# Altium integrated library ST Logic Flip-Flop.IntLib: 130 symbols (part 1 of 2)
Pins are listed as number, name and electrical type; pins without a type are passive.

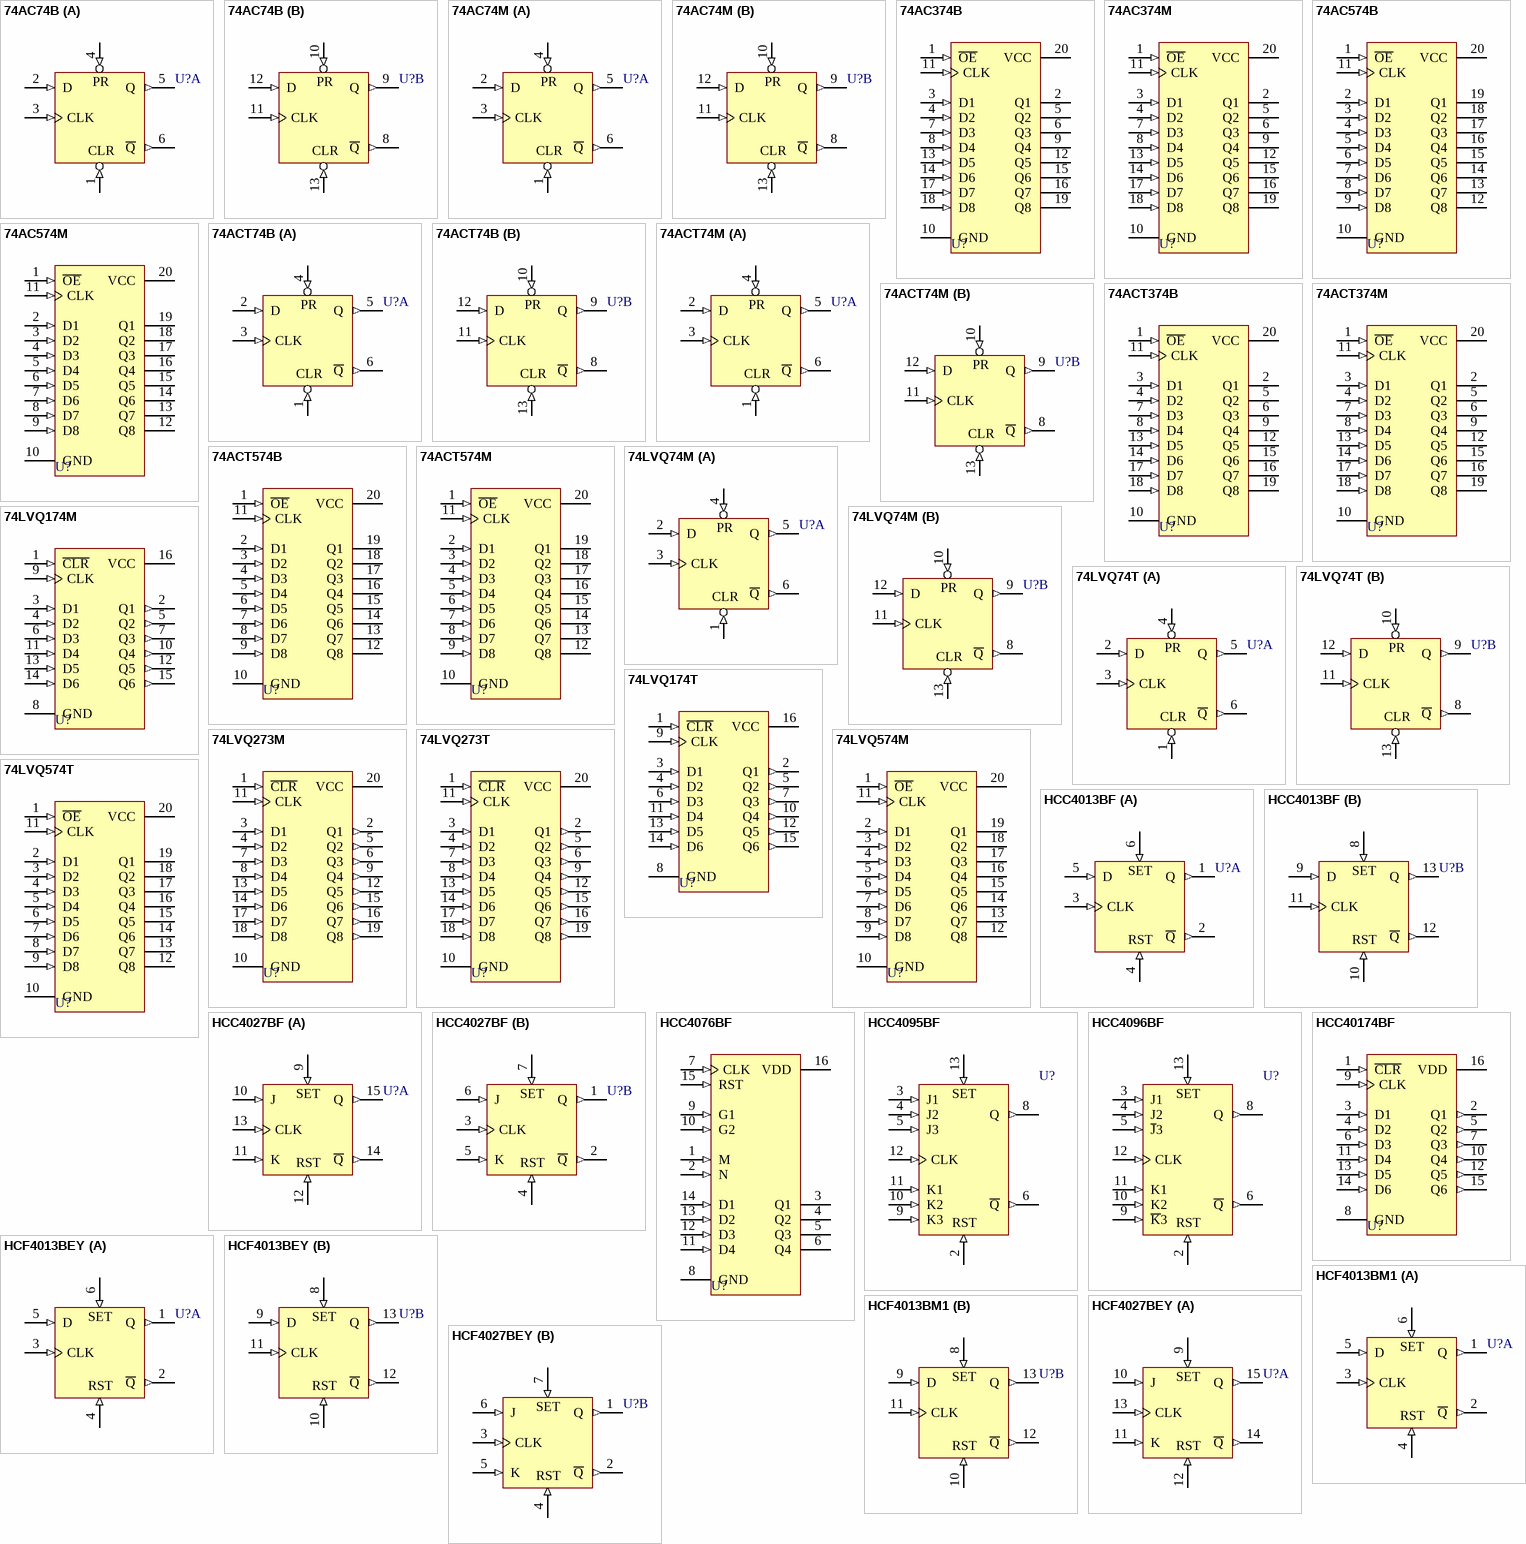
[diagram p0: symbols 74AC74B to HCF4027BEY]

## 74AC74B
designator U?
Dual D-Type Flip-Flop with Preset and Clear; Published: 8-Jun-2000; LatestRevisionDate: 17-Jul-2002; LatestRevisionNote: Re-released for DXP Platform.; DatasheetDocument: Apr-1997; PackageDocument: Jan-1997; PackageReference: DIP14; Publisher: Altium Limited
footprint DIP14 (DIP; 14 Leads; Row Spacing 7.62 mm; Pitch 2.54 mm)
signal-integrity model 74AC74B
pins on every part: 7 GND (power) hidden to GND, 14 VCC (power) hidden to VCC
part A pins: 1 CLR (in), 2 D (in), 3 CLK (in), 4 PR (in), 5 Q (out), 6 ~{Q} (out)
part B pins: 8 ~{Q} (out), 9 Q (out), 10 PR (in), 11 CLK (in), 12 D (in), 13 CLR (in)

## 74AC74M
designator U?
Dual D-Type Flip-Flop with Preset and Clear; Published: 8-Jun-2000; LatestRevisionDate: 17-Jul-2002; LatestRevisionNote: Re-released for DXP Platform.; DatasheetDocument: Apr-1997; PackageDocument: Sep-1998; PackageReference: SO14; Publisher: Altium Limited
footprint SO14 (Small Outline; 14 Leads; Body Width 3.9 mm; Pitch 1.27 mm)
signal-integrity model 74AC74M
pins on every part: 7 GND (power) hidden to GND, 14 VCC (power) hidden to VCC
part A pins: 1 CLR (in), 2 D (in), 3 CLK (in), 4 PR (in), 5 Q (out), 6 ~{Q} (out)
part B pins: 8 ~{Q} (out), 9 Q (out), 10 PR (in), 11 CLK (in), 12 D (in), 13 CLR (in)

## 74AC374B
designator U?
Octal D-Type Flip-Flop with 3-State Output Non-Inverting; Published: 8-Jun-2000; LatestRevisionDate: 17-Jul-2002; LatestRevisionNote: Re-released for DXP Platform.; DatasheetDocument: Apr-1997; PackageDocument: Jun-1998; PackageReference: DIP20; Publisher: Altium Limited; Code_JEDEC: MS-015-AE
footprint DIP20 (DIP; 20 Leads; Row Spacing 7.62 mm; Pitch 2.54 mm)
signal-integrity model 74AC374B
pins: 1 ~{OE} (in), 2 Q1 (hiz), 3 D1 (in), 4 D2 (in), 5 Q2 (hiz), 6 Q3 (hiz), 7 D3 (in), 8 D4 (in), 9 Q4 (hiz), 10 GND (power), 11 CLK (in), 12 Q5 (hiz), 13 D5 (in), 14 D6 (in), 15 Q6 (hiz), 16 Q7 (hiz), 17 D7 (in), 18 D8 (in), 19 Q8 (hiz), 20 VCC (power)

## 74AC374M
designator U?
Octal D-Type Flip-Flop with 3-State Output Non-Inverting; Published: 8-Jun-2000; LatestRevisionDate: 17-Jul-2002; LatestRevisionNote: Re-released for DXP Platform.; DatasheetDocument: Apr-1997; PackageDocument: Jul-2001; PackageReference: SO20; Publisher: Altium Limited; Code_JEDEC: MS-013-AC; Code_IPC: SO20W
footprint SO20 (Small Outline, Plastic; 20 Leads; Body Width 7.5 mm; Pitch 1.27 mm)
signal-integrity model 74AC374M
pins: 1 ~{OE} (in), 2 Q1 (hiz), 3 D1 (in), 4 D2 (in), 5 Q2 (hiz), 6 Q3 (hiz), 7 D3 (in), 8 D4 (in), 9 Q4 (hiz), 10 GND (power), 11 CLK (in), 12 Q5 (hiz), 13 D5 (in), 14 D6 (in), 15 Q6 (hiz), 16 Q7 (hiz), 17 D7 (in), 18 D8 (in), 19 Q8 (hiz), 20 VCC (power)

## 74AC574B
designator U?
Octal D-Type Flip-Flop with 3-State Output Non-Inverting; Published: 8-Jun-2000; LatestRevisionDate: 17-Jul-2002; LatestRevisionNote: Re-released for DXP Platform.; DatasheetDocument: Apr-1997; PackageDocument: Jun-1998; PackageReference: DIP20; Publisher: Altium Limited; Code_JEDEC: MS-015-AE
footprint DIP20 (DIP; 20 Leads; Row Spacing 7.62 mm; Pitch 2.54 mm)
signal-integrity model 74AC574B
pins: 1 ~{OE} (in), 2 D1 (in), 3 D2 (in), 4 D3 (in), 5 D4 (in), 6 D5 (in), 7 D6 (in), 8 D7 (in), 9 D8 (in), 10 GND (power), 11 CLK (in), 12 Q8 (hiz), 13 Q7 (hiz), 14 Q6 (hiz), 15 Q5 (hiz), 16 Q4 (hiz), 17 Q3 (hiz), 18 Q2 (hiz), 19 Q1 (hiz), 20 VCC (power)

## 74AC574M
designator U?
Octal D-Type Flip-Flop with 3-State Output Non-Inverting; Published: 8-Jun-2000; LatestRevisionDate: 17-Jul-2002; LatestRevisionNote: Re-released for DXP Platform.; DatasheetDocument: Apr-1997; PackageDocument: Jul-2001; PackageReference: SO20; Publisher: Altium Limited; Code_JEDEC: MS-013-AC; Code_IPC: SO20W
footprint SO20 (Small Outline, Plastic; 20 Leads; Body Width 7.5 mm; Pitch 1.27 mm)
signal-integrity model 74AC574M
pins: 1 ~{OE} (in), 2 D1 (in), 3 D2 (in), 4 D3 (in), 5 D4 (in), 6 D5 (in), 7 D6 (in), 8 D7 (in), 9 D8 (in), 10 GND (power), 11 CLK (in), 12 Q8 (hiz), 13 Q7 (hiz), 14 Q6 (hiz), 15 Q5 (hiz), 16 Q4 (hiz), 17 Q3 (hiz), 18 Q2 (hiz), 19 Q1 (hiz), 20 VCC (power)

## 74ACT74B
designator U?
Dual D-Type Flip-Flop with Preset and Clear; Published: 8-Jun-2000; LatestRevisionDate: 17-Jul-2002; LatestRevisionNote: Re-released for DXP Platform.; DatasheetDocument: Apr-1997; PackageDocument: Jan-1997; PackageReference: DIP14; Publisher: Altium Limited
footprint DIP14 (DIP; 14 Leads; Row Spacing 7.62 mm; Pitch 2.54 mm)
signal-integrity model 74ACT74B
pins on every part: 7 GND (power) hidden to GND, 14 VCC (power) hidden to VCC
part A pins: 1 CLR (in), 2 D (in), 3 CLK (in), 4 PR (in), 5 Q (out), 6 ~{Q} (out)
part B pins: 8 ~{Q} (out), 9 Q (out), 10 PR (in), 11 CLK (in), 12 D (in), 13 CLR (in)

## 74ACT74M
designator U?
Dual D-Type Flip-Flop with Preset and Clear; Published: 8-Jun-2000; LatestRevisionDate: 17-Jul-2002; LatestRevisionNote: Re-released for DXP Platform.; DatasheetDocument: Apr-1997; PackageDocument: Sep-1998; PackageReference: SO14; Publisher: Altium Limited
footprint SO14 (Small Outline; 14 Leads; Body Width 3.9 mm; Pitch 1.27 mm)
signal-integrity model 74ACT74M
pins on every part: 7 GND (power) hidden to GND, 14 VCC (power) hidden to VCC
part A pins: 1 CLR (in), 2 D (in), 3 CLK (in), 4 PR (in), 5 Q (out), 6 ~{Q} (out)
part B pins: 8 ~{Q} (out), 9 Q (out), 10 PR (in), 11 CLK (in), 12 D (in), 13 CLR (in)

## 74ACT374B
designator U?
Octal D-Type Flip-Flop with 3-State Output Non-Inverting; Published: 8-Jun-2000; LatestRevisionDate: 17-Jul-2002; LatestRevisionNote: Re-released for DXP Platform.; DatasheetDocument: Apr-1997; PackageDocument: Jun-1998; PackageReference: DIP20; Publisher: Altium Limited; Code_JEDEC: MS-015-AE
footprint DIP20 (DIP; 20 Leads; Row Spacing 7.62 mm; Pitch 2.54 mm)
signal-integrity model 74ACT374B
pins: 1 ~{OE} (in), 2 Q1 (hiz), 3 D1 (in), 4 D2 (in), 5 Q2 (hiz), 6 Q3 (hiz), 7 D3 (in), 8 D4 (in), 9 Q4 (hiz), 10 GND (power), 11 CLK (in), 12 Q5 (hiz), 13 D5 (in), 14 D6 (in), 15 Q6 (hiz), 16 Q7 (hiz), 17 D7 (in), 18 D8 (in), 19 Q8 (hiz), 20 VCC (power)

## 74ACT374M
designator U?
Octal D-Type Flip-Flop with 3-State Output Non-Inverting; Published: 8-Jun-2000; LatestRevisionDate: 17-Jul-2002; LatestRevisionNote: Re-released for DXP Platform.; DatasheetDocument: Apr-1997; PackageDocument: Jul-2001; PackageReference: SO20; Publisher: Altium Limited; Code_JEDEC: MS-013-AC; Code_IPC: SO20W
footprint SO20 (Small Outline, Plastic; 20 Leads; Body Width 7.5 mm; Pitch 1.27 mm)
signal-integrity model 74ACT374M
pins: 1 ~{OE} (in), 2 Q1 (hiz), 3 D1 (in), 4 D2 (in), 5 Q2 (hiz), 6 Q3 (hiz), 7 D3 (in), 8 D4 (in), 9 Q4 (hiz), 10 GND (power), 11 CLK (in), 12 Q5 (hiz), 13 D5 (in), 14 D6 (in), 15 Q6 (hiz), 16 Q7 (hiz), 17 D7 (in), 18 D8 (in), 19 Q8 (hiz), 20 VCC (power)

## 74ACT574B
designator U?
Octal D-Type Flip-Flop with 3-State Output Non-Inverting; Published: 8-Jun-2000; LatestRevisionDate: 17-Jul-2002; LatestRevisionNote: Re-released for DXP Platform.; DatasheetDocument: Apr-1997; PackageDocument: Jun-1998; PackageReference: DIP20; Publisher: Altium Limited; Code_JEDEC: MS-015-AE
footprint DIP20 (DIP; 20 Leads; Row Spacing 7.62 mm; Pitch 2.54 mm)
signal-integrity model 74ACT574B
pins: 1 ~{OE} (in), 2 D1 (in), 3 D2 (in), 4 D3 (in), 5 D4 (in), 6 D5 (in), 7 D6 (in), 8 D7 (in), 9 D8 (in), 10 GND (power), 11 CLK (in), 12 Q8 (hiz), 13 Q7 (hiz), 14 Q6 (hiz), 15 Q5 (hiz), 16 Q4 (hiz), 17 Q3 (hiz), 18 Q2 (hiz), 19 Q1 (hiz), 20 VCC (power)

## 74ACT574M
designator U?
Octal D-Type Flip-Flop with 3-State Output Non-Inverting; Published: 8-Jun-2000; LatestRevisionDate: 17-Jul-2002; LatestRevisionNote: Re-released for DXP Platform.; DatasheetDocument: Apr-1997; PackageDocument: Jul-2001; PackageReference: SO20; Publisher: Altium Limited; Code_JEDEC: MS-013-AC; Code_IPC: SO20W
footprint SO20 (Small Outline, Plastic; 20 Leads; Body Width 7.5 mm; Pitch 1.27 mm)
signal-integrity model 74ACT574M
pins: 1 ~{OE} (in), 2 D1 (in), 3 D2 (in), 4 D3 (in), 5 D4 (in), 6 D5 (in), 7 D6 (in), 8 D7 (in), 9 D8 (in), 10 GND (power), 11 CLK (in), 12 Q8 (hiz), 13 Q7 (hiz), 14 Q6 (hiz), 15 Q5 (hiz), 16 Q4 (hiz), 17 Q3 (hiz), 18 Q2 (hiz), 19 Q1 (hiz), 20 VCC (power)

## 74LVQ74M
designator U?
Dual D-Type Flip-Flop with Preset and Clear; Published: 8-Jun-2000; LatestRevisionDate: 17-Jul-2002; LatestRevisionNote: Re-released for DXP Platform.; DatasheetDocument: Feb-1999; PackageDocument: Sep-1998; PackageReference: SO14; Publisher: Altium Limited
footprint SO14 (Small Outline; 14 Leads; Body Width 3.9 mm; Pitch 1.27 mm)
pins on every part: 7 GND (power) hidden to GND, 14 VCC (power) hidden to VCC
part A pins: 1 CLR (in), 2 D (in), 3 CLK (in), 4 PR (in), 5 Q (out), 6 ~{Q} (out)
part B pins: 8 ~{Q} (out), 9 Q (out), 10 PR (in), 11 CLK (in), 12 D (in), 13 CLR (in)

## 74LVQ74T
designator U?
Dual D-Type Flip-Flop with Preset and Clear; Published: 8-Jun-2000; LatestRevisionDate: 17-Jul-2002; LatestRevisionNote: Re-released for DXP Platform.; DatasheetDocument: Feb-1999; PackageReference: TSSOP14; Publisher: Altium Limited
footprint TSSOP14 (Shrink Small Outline; 14 Leads; Body Width 4.4 mm; Pitch 0.65 mm)
pins on every part: 7 GND (power) hidden to GND, 14 VCC (power) hidden to VCC
part A pins: 1 CLR (in), 2 D (in), 3 CLK (in), 4 PR (in), 5 Q (out), 6 ~{Q} (out)
part B pins: 8 ~{Q} (out), 9 Q (out), 10 PR (in), 11 CLK (in), 12 D (in), 13 CLR (in)

## 74LVQ174M
designator U?
Hex D-Type Flip-Flop with Clear; Published: 8-Jun-2000; LatestRevisionDate: 17-Jul-2002; LatestRevisionNote: Re-released for DXP Platform.; DatasheetDocument: Feb-1999; PackageDocument: May-1998; PackageReference: SO16; Publisher: Altium Limited
footprint SO16 (Small Outline; 16 Leads; Body Width 3.9 mm; Pitch 1.27 mm)
pins: 1 ~{CLR} (in), 2 Q1 (out), 3 D1 (in), 4 D2 (in), 5 Q2 (out), 6 D3 (in), 7 Q3 (out), 8 GND (power), 9 CLK (in), 10 Q4 (out), 11 D4 (in), 12 Q5 (out), 13 D5 (in), 14 D6 (in), 15 Q6 (out), 16 VCC (power)

## 74LVQ174T
designator U?
Hex D-Type Flip-Flop with Clear; Published: 8-Jun-2000; LatestRevisionDate: 17-Jul-2002; LatestRevisionNote: Re-released for DXP Platform.; DatasheetDocument: Feb-1999; PackageReference: TSSOP16A; Publisher: Altium Limited
footprint TSSOP16A (Shrink Small Outline; 16 Leads; Body Width 4.4 mm; Pitch 0.65 mm)
pins: 1 ~{CLR} (in), 2 Q1 (out), 3 D1 (in), 4 D2 (in), 5 Q2 (out), 6 D3 (in), 7 Q3 (out), 8 GND (power), 9 CLK (in), 10 Q4 (out), 11 D4 (in), 12 Q5 (out), 13 D5 (in), 14 D6 (in), 15 Q6 (out), 16 VCC (power)

## 74LVQ273M
designator U?
Octal D-Type Flip-Flop with Clear; Published: 8-Jun-2000; LatestRevisionDate: 17-Jul-2002; LatestRevisionNote: Re-released for DXP Platform.; DatasheetDocument: Feb-1999; PackageDocument: Jul-2001; PackageReference: SO20; Publisher: Altium Limited; Code_JEDEC: MS-013-AC; Code_IPC: SO20W
footprint SO20 (Small Outline, Plastic; 20 Leads; Body Width 7.5 mm; Pitch 1.27 mm)
pins: 1 ~{CLR} (in), 2 Q1 (out), 3 D1 (in), 4 D2 (in), 5 Q2 (out), 6 Q3 (out), 7 D3 (in), 8 D4 (in), 9 Q4 (out), 10 GND (power), 11 CLK (in), 12 Q5 (out), 13 D5 (in), 14 D6 (in), 15 Q6 (out), 16 Q7 (out), 17 D7 (in), 18 D8 (in), 19 Q8 (out), 20 VCC (power)

## 74LVQ273T
designator U?
Octal D-Type Flip-Flop with Clear; Published: 8-Jun-2000; LatestRevisionDate: 17-Jul-2002; LatestRevisionNote: PCB Footprint 'TSSO6x6-G20/P.65' replaced; Re-released for DXP Platform.; DatasheetDocument: Feb-1999; PackageReference: TSSOP20; Publisher: Altium Limited
footprint TSSOP20 (Shrink Small Outline; 20 Leads; Body Width 4.4 mm; Pitch 0.65 mm)
pins: 1 ~{CLR} (in), 2 Q1 (out), 3 D1 (in), 4 D2 (in), 5 Q2 (out), 6 Q3 (out), 7 D3 (in), 8 D4 (in), 9 Q4 (out), 10 GND (power), 11 CLK (in), 12 Q5 (out), 13 D5 (in), 14 D6 (in), 15 Q6 (out), 16 Q7 (out), 17 D7 (in), 18 D8 (in), 19 Q8 (out), 20 VCC (power)

## 74LVQ574M
designator U?
Octal D-Type Flip-Flop with 3-State Output Non-Inverting; Published: 8-Jun-2000; LatestRevisionDate: 17-Jul-2002; LatestRevisionNote: Re-released for DXP Platform.; DatasheetDocument: Feb-1999; PackageDocument: Jul-2001; PackageReference: SO20; Publisher: Altium Limited; Code_JEDEC: MS-013-AC; Code_IPC: SO20W
footprint SO20 (Small Outline, Plastic; 20 Leads; Body Width 7.5 mm; Pitch 1.27 mm)
pins: 1 ~{OE} (in), 2 D1 (in), 3 D2 (in), 4 D3 (in), 5 D4 (in), 6 D5 (in), 7 D6 (in), 8 D7 (in), 9 D8 (in), 10 GND (power), 11 CLK (in), 12 Q8 (hiz), 13 Q7 (hiz), 14 Q6 (hiz), 15 Q5 (hiz), 16 Q4 (hiz), 17 Q3 (hiz), 18 Q2 (hiz), 19 Q1 (hiz), 20 VCC (power)

## 74LVQ574T
designator U?
Octal D-Type Flip-Flop with 3-State Output Non-Inverting; Published: 8-Jun-2000; LatestRevisionDate: 17-Jul-2002; LatestRevisionNote: PCB Footprint 'TSSO6x6-G20/P.65' replaced; Re-released for DXP Platform.; DatasheetDocument: Feb-1999; PackageReference: TSSOP20; Publisher: Altium Limited
footprint TSSOP20 (Shrink Small Outline; 20 Leads; Body Width 4.4 mm; Pitch 0.65 mm)
pins: 1 ~{OE} (in), 2 D1 (in), 3 D2 (in), 4 D3 (in), 5 D4 (in), 6 D5 (in), 7 D6 (in), 8 D7 (in), 9 D8 (in), 10 GND (power), 11 CLK (in), 12 Q8 (hiz), 13 Q7 (hiz), 14 Q6 (hiz), 15 Q5 (hiz), 16 Q4 (hiz), 17 Q3 (hiz), 18 Q2 (hiz), 19 Q1 (hiz), 20 VCC (power)

## HCC4013BF
designator U?
Dual D-Type Flip-Flop; Published: 8-Jun-2000; LatestRevisionDate: 17-Jul-2002; LatestRevisionNote: Re-released for DXP Platform.; DatasheetDocument: Jun-1989; PackageReference: CDIP14; Publisher: Altium Limited
footprint CDIP14 (DIP; 14 Leads; Row Spacing 7.62 mm; Pitch 2.54 mm)
simulation model HCC4013 (SIMCODE)
pins on every part: 7 GND (power) hidden to GND, 14 VDD (power) hidden to VDD
part A pins: 1 Q (out), 2 ~{Q} (out), 3 CLK (in), 4 RST (in), 5 D (in), 6 S (in)
part B pins: 8 S (in), 9 D (in), 10 RST (in), 11 CLK (in), 12 ~{Q} (out), 13 Q (out)
part A text: SET
part B text: SET

## HCC4027BF
designator U?
Dual J-K Master-Slave Flip-Flop; Published: 8-Jun-2000; LatestRevisionDate: 17-Jul-2002; LatestRevisionNote: Re-released for DXP Platform.; DatasheetDocument: Jun-1989; PackageDocument: Apr-1996; PackageReference: DIP16; Publisher: Altium Limited
footprint DIP16 (DIP; 16 Leads; Row Spacing 7.62 mm; Pitch 2.54 mm)
simulation model HCC4027 (SIMCODE)
pins on every part: 8 GND (power) hidden to GND, 16 VDD (power) hidden to VDD
part A pins: 9 S (in), 10 J (in), 11 K (in), 12 RST (in), 13 CLK (in), 14 ~{Q} (out), 15 Q (out)
part B pins: 1 Q (out), 2 ~{Q} (out), 3 CLK (in), 4 RST (in), 5 K (in), 6 J (in), 7 S (in)
part A text: SET
part B text: SET

## HCC4076BF
designator U?
4-Bit D-Type Register; Published: 8-Jun-2000; LatestRevisionDate: 17-Jul-2002; LatestRevisionNote: Re-released for DXP Platform.; DatasheetDocument: Sep-1988; PackageDocument: Apr-1996; PackageReference: DIP16; Publisher: Altium Limited
footprint DIP16 (DIP; 16 Leads; Row Spacing 7.62 mm; Pitch 2.54 mm)
simulation model HCC4076 (SIMCODE)
pins: 1 M (in), 2 N (in), 3 Q1 (hiz), 4 Q2 (hiz), 5 Q3 (hiz), 6 Q4 (hiz), 7 CLK (in), 8 GND (power), 9 G1 (in), 10 G2 (in), 11 D4 (in), 12 D3 (in), 13 D2 (in), 14 D1 (in), 15 RST (in), 16 VDD (power)

## HCC4095BF
designator U?
Gate J-K Master-Slave Flip-Flop; Note: Pin 1 is not connected and not drawn.; Published: 8-Jun-2000; LatestRevisionDate: 17-Jul-2002; LatestRevisionNote: Re-released for DXP Platform.; DatasheetDocument: Sep-1988; PackageReference: CDIP14; Publisher: Altium Limited
footprint CDIP14 (DIP; 14 Leads; Row Spacing 7.62 mm; Pitch 2.54 mm)
pins: 2 RST (in), 3 J1 (in), 4 J2 (in), 5 J3 (in), 6 ~{Q} (out), 7 GND (power) hidden to GND, 8 Q (out), 9 K3 (in), 10 K2 (in), 11 K1 (in), 12 CLK (in), 13 S (in), 14 VDD (power) hidden to VDD
text: SET

## HCC4096BF
designator U?
Gate J-K Master-Slave Flip-Flop; Note: Pin 1 is not connected and not drawn.; Published: 8-Jun-2000; LatestRevisionDate: 17-Jul-2002; LatestRevisionNote: Re-released for DXP Platform.; DatasheetDocument: Sep-1988; PackageReference: CDIP14; Publisher: Altium Limited
footprint CDIP14 (DIP; 14 Leads; Row Spacing 7.62 mm; Pitch 2.54 mm)
pins: 2 RST (in), 3 J1 (in), 4 J2 (in), 5 ~{J}3 (in), 6 ~{Q} (out), 7 GND (power) hidden to GND, 8 Q (out), 9 ~{K}3 (in), 10 K2 (in), 11 K1 (in), 12 CLK (in), 13 S (in), 14 VDD (power) hidden to VDD
text: SET

## HCC40174BF
designator U?
Hex D-Type Flip-Flop; Published: 8-Jun-2000; LatestRevisionDate: 17-Jul-2002; LatestRevisionNote: Re-released for DXP Platform.; DatasheetDocument: Jun-1989; PackageDocument: Apr-1996; PackageReference: DIP16; Publisher: Altium Limited
footprint DIP16 (DIP; 16 Leads; Row Spacing 7.62 mm; Pitch 2.54 mm)
pins: 1 ~{CLR} (in), 2 Q1 (out), 3 D1 (in), 4 D2 (in), 5 Q2 (out), 6 D3 (in), 7 Q3 (out), 8 GND (power), 9 CLK (in), 10 Q4 (out), 11 D4 (in), 12 Q5 (out), 13 D5 (in), 14 D6 (in), 15 Q6 (out), 16 VDD (power)

## HCF4013BEY
designator U?
Dual D-Type Flip-Flop; Published: 8-Jun-2000; LatestRevisionDate: 17-Jul-2002; LatestRevisionNote: Re-released for DXP Platform.; DatasheetDocument: Jun-1989; PackageDocument: Jan-1997; PackageReference: DIP14; Publisher: Altium Limited
footprint DIP14 (DIP; 14 Leads; Row Spacing 7.62 mm; Pitch 2.54 mm)
simulation model HCF4013 (SIMCODE)
pins on every part: 7 GND (power) hidden to GND, 14 VDD (power) hidden to VDD
part A pins: 1 Q (out), 2 ~{Q} (out), 3 CLK (in), 4 RST (in), 5 D (in), 6 S (in)
part B pins: 8 S (in), 9 D (in), 10 RST (in), 11 CLK (in), 12 ~{Q} (out), 13 Q (out)
part A text: SET
part B text: SET

## HCF4013BM1
designator U?
Dual D-Type Flip-Flop; Published: 8-Jun-2000; LatestRevisionDate: 17-Jul-2002; LatestRevisionNote: Re-released for DXP Platform.; DatasheetDocument: Jun-1989; PackageDocument: Sep-1998; PackageReference: SO14; Publisher: Altium Limited
footprint SO14 (Small Outline; 14 Leads; Body Width 3.9 mm; Pitch 1.27 mm)
simulation model HCF4013 (SIMCODE)
pins on every part: 7 GND (power) hidden to GND, 14 VDD (power) hidden to VDD
part A pins: 1 Q (out), 2 ~{Q} (out), 3 CLK (in), 4 RST (in), 5 D (in), 6 S (in)
part B pins: 8 S (in), 9 D (in), 10 RST (in), 11 CLK (in), 12 ~{Q} (out), 13 Q (out)
part A text: SET
part B text: SET

## HCF4027BEY
designator U?
Dual J-K Master-Slave Flip-Flop; Published: 8-Jun-2000; LatestRevisionDate: 17-Jul-2002; LatestRevisionNote: Re-released for DXP Platform.; DatasheetDocument: Jun-1989; PackageDocument: Apr-1996; PackageReference: DIP16; Publisher: Altium Limited
footprint DIP16 (DIP; 16 Leads; Row Spacing 7.62 mm; Pitch 2.54 mm)
simulation model HCF4027 (SIMCODE)
pins on every part: 8 GND (power) hidden to GND, 16 VDD (power) hidden to VDD
part A pins: 9 S (in), 10 J (in), 11 K (in), 12 RST (in), 13 CLK (in), 14 ~{Q} (out), 15 Q (out)
part B pins: 1 Q (out), 2 ~{Q} (out), 3 CLK (in), 4 RST (in), 5 K (in), 6 J (in), 7 S (in)
part A text: SET
part B text: SET

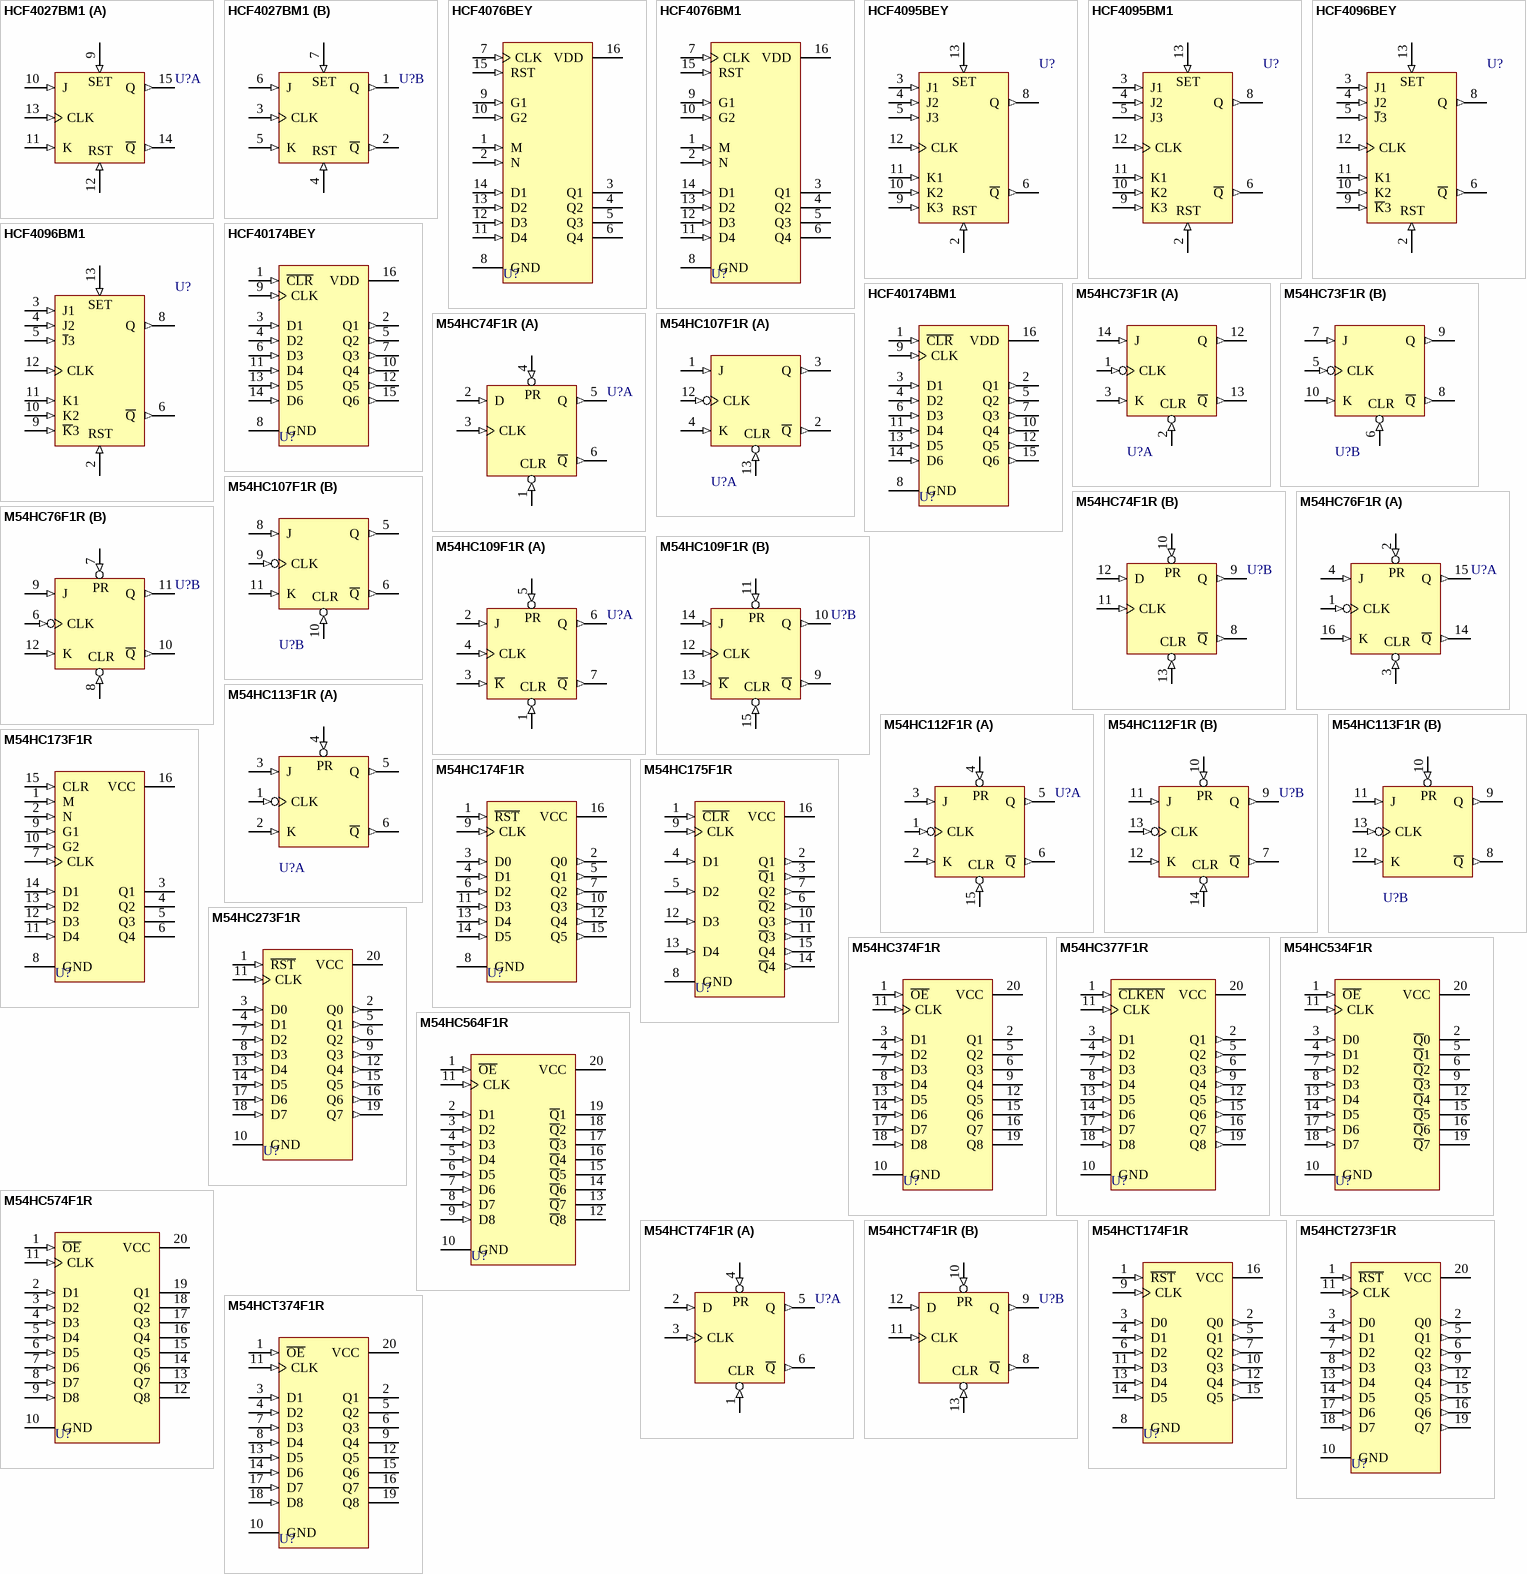
[diagram p1: symbols HCF4027BM1 to M54HCT374F1R]

## HCF4027BM1
designator U?
Dual J-K Master-Slave Flip-Flop; Published: 8-Jun-2000; LatestRevisionDate: 17-Jul-2002; LatestRevisionNote: Re-released for DXP Platform.; DatasheetDocument: Jun-1989; PackageDocument: May-1998; PackageReference: SO16; Publisher: Altium Limited
footprint SO16 (Small Outline; 16 Leads; Body Width 3.9 mm; Pitch 1.27 mm)
simulation model HCF4027 (SIMCODE)
pins on every part: 8 GND (power) hidden to GND, 16 VDD (power) hidden to VDD
part A pins: 9 S (in), 10 J (in), 11 K (in), 12 RST (in), 13 CLK (in), 14 ~{Q} (out), 15 Q (out)
part B pins: 1 Q (out), 2 ~{Q} (out), 3 CLK (in), 4 RST (in), 5 K (in), 6 J (in), 7 S (in)
part A text: SET
part B text: SET

## HCF4076BEY
designator U?
4-Bit D-Type Register; Published: 8-Jun-2000; LatestRevisionDate: 17-Jul-2002; LatestRevisionNote: Re-released for DXP Platform.; DatasheetDocument: Sep-1988; PackageDocument: Apr-1996; PackageReference: DIP16; Publisher: Altium Limited
footprint DIP16 (DIP; 16 Leads; Row Spacing 7.62 mm; Pitch 2.54 mm)
simulation model HCF4076 (SIMCODE)
pins: 1 M (in), 2 N (in), 3 Q1 (hiz), 4 Q2 (hiz), 5 Q3 (hiz), 6 Q4 (hiz), 7 CLK (in), 8 GND (power), 9 G1 (in), 10 G2 (in), 11 D4 (in), 12 D3 (in), 13 D2 (in), 14 D1 (in), 15 RST (in), 16 VDD (power)

## HCF4076BM1
designator U?
4-Bit D-Type Register; Published: 8-Jun-2000; LatestRevisionDate: 17-Jul-2002; LatestRevisionNote: Re-released for DXP Platform.; DatasheetDocument: Sep-1988; PackageDocument: May-1998; PackageReference: SO16; Publisher: Altium Limited
footprint SO16 (Small Outline; 16 Leads; Body Width 3.9 mm; Pitch 1.27 mm)
simulation model HCF4076 (SIMCODE)
pins: 1 M (in), 2 N (in), 3 Q1 (hiz), 4 Q2 (hiz), 5 Q3 (hiz), 6 Q4 (hiz), 7 CLK (in), 8 GND (power), 9 G1 (in), 10 G2 (in), 11 D4 (in), 12 D3 (in), 13 D2 (in), 14 D1 (in), 15 RST (in), 16 VDD (power)

## HCF4095BEY
designator U?
Gate J-K Master-Slave Flip-Flop; Note: Pin 1 is not connected and not drawn.; Published: 8-Jun-2000; LatestRevisionDate: 17-Jul-2002; LatestRevisionNote: Re-released for DXP Platform.; DatasheetDocument: Sep-1988; PackageDocument: Jan-1997; PackageReference: DIP14; Publisher: Altium Limited
footprint DIP14 (DIP; 14 Leads; Row Spacing 7.62 mm; Pitch 2.54 mm)
pins: 2 RST (in), 3 J1 (in), 4 J2 (in), 5 J3 (in), 6 ~{Q} (out), 7 GND (power) hidden to GND, 8 Q (out), 9 K3 (in), 10 K2 (in), 11 K1 (in), 12 CLK (in), 13 S (in), 14 VDD (power) hidden to VDD
text: SET

## HCF4095BM1
designator U?
Gate J-K Master-Slave Flip-Flop; Note: Pin 1 is not connected and not drawn.; Published: 8-Jun-2000; LatestRevisionDate: 17-Jul-2002; LatestRevisionNote: Re-released for DXP Platform.; DatasheetDocument: Sep-1988; PackageDocument: Sep-1998; PackageReference: SO14; Publisher: Altium Limited
footprint SO14 (Small Outline; 14 Leads; Body Width 3.9 mm; Pitch 1.27 mm)
pins: 2 RST (in), 3 J1 (in), 4 J2 (in), 5 J3 (in), 6 ~{Q} (out), 7 GND (power) hidden to GND, 8 Q (out), 9 K3 (in), 10 K2 (in), 11 K1 (in), 12 CLK (in), 13 S (in), 14 VDD (power) hidden to VDD
text: SET

## HCF4096BEY
designator U?
Gate J-K Master-Slave Flip-Flop; Note: Pin 1 is not connected and not drawn.; Published: 8-Jun-2000; LatestRevisionDate: 17-Jul-2002; LatestRevisionNote: Re-released for DXP Platform.; DatasheetDocument: Sep-1988; PackageDocument: Jan-1997; PackageReference: DIP14; Publisher: Altium Limited
footprint DIP14 (DIP; 14 Leads; Row Spacing 7.62 mm; Pitch 2.54 mm)
pins: 2 RST (in), 3 J1 (in), 4 J2 (in), 5 ~{J}3 (in), 6 ~{Q} (out), 7 GND (power) hidden to GND, 8 Q (out), 9 ~{K}3 (in), 10 K2 (in), 11 K1 (in), 12 CLK (in), 13 S (in), 14 VDD (power) hidden to VDD
text: SET

## HCF4096BM1
designator U?
Gate J-K Master-Slave Flip-Flop; Note: Pin 1 is not connected and not drawn.; Published: 8-Jun-2000; LatestRevisionDate: 17-Jul-2002; LatestRevisionNote: Re-released for DXP Platform.; DatasheetDocument: Sep-1988; PackageDocument: Sep-1998; PackageReference: SO14; Publisher: Altium Limited
footprint SO14 (Small Outline; 14 Leads; Body Width 3.9 mm; Pitch 1.27 mm)
pins: 2 RST (in), 3 J1 (in), 4 J2 (in), 5 ~{J}3 (in), 6 ~{Q} (out), 7 GND (power) hidden to GND, 8 Q (out), 9 ~{K}3 (in), 10 K2 (in), 11 K1 (in), 12 CLK (in), 13 S (in), 14 VDD (power) hidden to VDD
text: SET

## HCF40174BEY
designator U?
Hex D-Type Flip-Flop; Published: 8-Jun-2000; LatestRevisionDate: 17-Jul-2002; LatestRevisionNote: Re-released for DXP Platform.; DatasheetDocument: Jun-1989; PackageDocument: Apr-1996; PackageReference: DIP16; Publisher: Altium Limited
footprint DIP16 (DIP; 16 Leads; Row Spacing 7.62 mm; Pitch 2.54 mm)
pins: 1 ~{CLR} (in), 2 Q1 (out), 3 D1 (in), 4 D2 (in), 5 Q2 (out), 6 D3 (in), 7 Q3 (out), 8 GND (power), 9 CLK (in), 10 Q4 (out), 11 D4 (in), 12 Q5 (out), 13 D5 (in), 14 D6 (in), 15 Q6 (out), 16 VDD (power)

## HCF40174BM1
designator U?
Hex D-Type Flip-Flop; Published: 8-Jun-2000; LatestRevisionDate: 17-Jul-2002; LatestRevisionNote: Re-released for DXP Platform.; DatasheetDocument: Jun-1989; PackageDocument: May-1998; PackageReference: SO16; Publisher: Altium Limited
footprint SO16 (Small Outline; 16 Leads; Body Width 3.9 mm; Pitch 1.27 mm)
pins: 1 ~{CLR} (in), 2 Q1 (out), 3 D1 (in), 4 D2 (in), 5 Q2 (out), 6 D3 (in), 7 Q3 (out), 8 GND (power), 9 CLK (in), 10 Q4 (out), 11 D4 (in), 12 Q5 (out), 13 D5 (in), 14 D6 (in), 15 Q6 (out), 16 VDD (power)

## M54HC73F1R
designator U?
Dual J-K Flip-Flop with Preset and Clear; Published: 8-Jun-2000; LatestRevisionDate: 17-Jul-2002; LatestRevisionNote: Re-released for DXP Platform.; DatasheetDocument: Oct-1992; PackageReference: CDIP14; Publisher: Altium Limited
footprint CDIP14 (DIP; 14 Leads; Row Spacing 7.62 mm; Pitch 2.54 mm)
signal-integrity model M54HC73F1R
pins on every part: 4 VCC (power) hidden to VCC, 11 GND (power) hidden to GND
part A pins: 1 CLK (in), 2 CLR (in), 3 K (in), 12 Q (out), 13 ~{Q} (out), 14 J (in)
part B pins: 5 CLK (in), 6 CLR (in), 7 J (in), 8 ~{Q} (out), 9 Q (out), 10 K (in)

## M54HC74F1R
designator U?
Dual D-Type Flip-Flop with Preset and Clear; Published: 8-Jun-2000; LatestRevisionDate: 17-Jul-2002; LatestRevisionNote: Re-released for DXP Platform.; DatasheetDocument: Oct-1992; PackageReference: CDIP14; Publisher: Altium Limited
footprint CDIP14 (DIP; 14 Leads; Row Spacing 7.62 mm; Pitch 2.54 mm)
signal-integrity model M54HC74F1R
pins on every part: 7 GND (power) hidden to GND, 14 VCC (power) hidden to VCC
part A pins: 1 CLR (in), 2 D (in), 3 CLK (in), 4 PR (in), 5 Q (out), 6 ~{Q} (out)
part B pins: 8 ~{Q} (out), 9 Q (out), 10 PR (in), 11 CLK (in), 12 D (in), 13 CLR (in)

## M54HC76F1R
designator U?
Dual J-K Flip-Flop with Preset and Clear; Published: 8-Jun-2000; LatestRevisionDate: 17-Jul-2002; LatestRevisionNote: Re-released for DXP Platform.; DatasheetDocument: Oct-1992; PackageDocument: Apr-1996; PackageReference: DIP16; Publisher: Altium Limited
footprint DIP16 (DIP; 16 Leads; Row Spacing 7.62 mm; Pitch 2.54 mm)
signal-integrity model M54HC76F1R
pins on every part: 5 VCC (power) hidden to VCC, 13 GND (power) hidden to GND
part A pins: 1 CLK (in), 2 PR (in), 3 CLR (in), 4 J (in), 14 ~{Q} (out), 15 Q (out), 16 K (in)
part B pins: 6 CLK (in), 7 PR (in), 8 CLR (in), 9 J (in), 10 ~{Q} (out), 11 Q (out), 12 K (in)

## M54HC107F1R
designator U?
Dual J-K Flip-Flop with Clear; Published: 8-Jun-2000; LatestRevisionDate: 17-Jul-2002; LatestRevisionNote: Re-released for DXP Platform.; DatasheetDocument: Oct-1992; PackageReference: CDIP14; Publisher: Altium Limited
footprint CDIP14 (DIP; 14 Leads; Row Spacing 7.62 mm; Pitch 2.54 mm)
signal-integrity model M54HC107F1R
pins on every part: 7 GND (power) hidden to GND, 14 VCC (power) hidden to VCC
part A pins: 1 J (in), 2 ~{Q} (out), 3 Q (out), 4 K (in), 12 CLK (in), 13 CLR (in)
part B pins: 5 Q (out), 6 ~{Q} (out), 8 J (in), 9 CLK (in), 10 CLR (in), 11 K (in)

## M54HC109F1R
designator U?
Dual J-K Flip-Flop with Preset and Clear; Published: 8-Jun-2000; LatestRevisionDate: 17-Jul-2002; LatestRevisionNote: Re-released for DXP Platform.; DatasheetDocument: Dec-1992; PackageDocument: Apr-1996; PackageReference: DIP16; Publisher: Altium Limited
footprint DIP16 (DIP; 16 Leads; Row Spacing 7.62 mm; Pitch 2.54 mm)
signal-integrity model M54HC109F1R
pins on every part: 8 GND (power) hidden to GND, 16 VCC (power) hidden to VCC
part A pins: 1 CLR (in), 2 J (in), 3 ~{K} (in), 4 CLK (in), 5 PR (in), 6 Q (out), 7 ~{Q} (out)
part B pins: 9 ~{Q} (out), 10 Q (out), 11 PR (in), 12 CLK (in), 13 ~{K} (in), 14 J (in), 15 CLR (in)

## M54HC112F1R
designator U?
Dual J-K Flip-Flop with Preset and Clear; Published: 8-Jun-2000; LatestRevisionDate: 17-Jul-2002; LatestRevisionNote: Re-released for DXP Platform.; DatasheetDocument: Oct-1992; PackageDocument: Apr-1996; PackageReference: DIP16; Publisher: Altium Limited
footprint DIP16 (DIP; 16 Leads; Row Spacing 7.62 mm; Pitch 2.54 mm)
signal-integrity model M54HC112F1R
pins on every part: 8 GND (power) hidden to GND, 16 VCC (power) hidden to VCC
part A pins: 1 CLK (in), 2 K (in), 3 J (in), 4 PR (in), 5 Q (out), 6 ~{Q} (out), 15 CLR (in)
part B pins: 7 ~{Q} (out), 9 Q (out), 10 PR (in), 11 J (in), 12 K (in), 13 CLK (in), 14 CLR (in)

## M54HC113F1R
designator U?
Dual J-K Flip-Flop with Preset; Published: 8-Jun-2000; LatestRevisionDate: 17-Jul-2002; LatestRevisionNote: Re-released for DXP Platform.; DatasheetDocument: Oct-1992; PackageReference: CDIP14; Publisher: Altium Limited
footprint CDIP14 (DIP; 14 Leads; Row Spacing 7.62 mm; Pitch 2.54 mm)
signal-integrity model M54HC113F1R
pins on every part: 7 GND (power) hidden to GND, 14 VCC (power) hidden to VCC
part A pins: 1 CLK (in), 2 K (in), 3 J (in), 4 PR (in), 5 Q (out), 6 ~{Q} (out)
part B pins: 8 ~{Q} (out), 9 Q (out), 10 PR (in), 11 J (in), 12 K (in), 13 CLK (in)

## M54HC173F1R
designator U?
Quad D-Type Register (3-State); Published: 8-Jun-2000; LatestRevisionDate: 17-Jul-2002; LatestRevisionNote: Re-released for DXP Platform.; DatasheetDocument: Oct-1992; PackageDocument: Apr-1996; PackageReference: DIP16; Publisher: Altium Limited
footprint DIP16 (DIP; 16 Leads; Row Spacing 7.62 mm; Pitch 2.54 mm)
signal-integrity model M54HC173F1R
pins: 1 M (in), 2 N (in), 3 Q1 (hiz), 4 Q2 (hiz), 5 Q3 (hiz), 6 Q4 (hiz), 7 CLK (in), 8 GND (power), 9 G1 (in), 10 G2 (in), 11 D4 (in), 12 D3 (in), 13 D2 (in), 14 D1 (in), 15 CLR (in), 16 VCC (power)

## M54HC174F1R
designator U?
Hex D-Type Flip-Flop with Clear; Published: 8-Jun-2000; LatestRevisionDate: 17-Jul-2002; LatestRevisionNote: Re-released for DXP Platform.; DatasheetDocument: Oct-1992; PackageDocument: Apr-1996; PackageReference: DIP16; Publisher: Altium Limited
footprint DIP16 (DIP; 16 Leads; Row Spacing 7.62 mm; Pitch 2.54 mm)
signal-integrity model M54HC174F1R
pins: 1 ~{RST} (in), 2 Q0 (out), 3 D0 (in), 4 D1 (in), 5 Q1 (out), 6 D2 (in), 7 Q2 (out), 8 GND (power), 9 CLK (in), 10 Q3 (out), 11 D3 (in), 12 Q4 (out), 13 D4 (in), 14 D5 (in), 15 Q5 (out), 16 VCC (power)

## M54HC175F1R
designator U?
Quad D-Type Flip-Flop with Clear; Published: 8-Jun-2000; LatestRevisionDate: 17-Jul-2002; LatestRevisionNote: Re-released for DXP Platform.; DatasheetDocument: Oct-1992; PackageDocument: Apr-1996; PackageReference: DIP16; Publisher: Altium Limited
footprint DIP16 (DIP; 16 Leads; Row Spacing 7.62 mm; Pitch 2.54 mm)
signal-integrity model M54HC175F1R
pins: 1 ~{CLR} (in), 2 Q1 (out), 3 ~{Q}1 (out), 4 D1 (in), 5 D2 (in), 6 ~{Q}2 (out), 7 Q2 (out), 8 GND (power), 9 CLK (in), 10 Q3 (out), 11 ~{Q}3 (out), 12 D3 (in), 13 D4 (in), 14 ~{Q}4 (out), 15 Q4 (out), 16 VCC (power)

## M54HC273F1R
designator U?
Octal D-Type Flip-Flop with Clear; Published: 8-Jun-2000; LatestRevisionDate: 17-Jul-2002; LatestRevisionNote: Re-released for DXP Platform.; DatasheetDocument: Oct-1992; PackageDocument: Sep-1994; PackageReference: CDIP20; Publisher: Altium Limited
footprint CDIP20 (DIP; 20 Leads; Row Spacing 7.62 mm; Pitch 2.54 mm)
signal-integrity model M54HC273F1R
pins: 1 ~{RST} (in), 2 Q0 (out), 3 D0 (in), 4 D1 (in), 5 Q1 (out), 6 Q2 (out), 7 D2 (in), 8 D3 (in), 9 Q3 (out), 10 GND (power), 11 CLK (in), 12 Q4 (out), 13 D4 (in), 14 D5 (in), 15 Q5 (out), 16 Q6 (out), 17 D6 (in), 18 D7 (in), 19 Q7 (out), 20 VCC (power)

## M54HC374F1R
designator U?
Octal D-Type Flip-Flop with 3-State Output Non-Inverting; Published: 8-Jun-2000; LatestRevisionDate: 17-Jul-2002; LatestRevisionNote: Re-released for DXP Platform.; DatasheetDocument: Mar-1993; PackageDocument: Sep-1994; PackageReference: CDIP20; Publisher: Altium Limited
footprint CDIP20 (DIP; 20 Leads; Row Spacing 7.62 mm; Pitch 2.54 mm)
signal-integrity model M54HC374F1R
pins: 1 ~{OE} (in), 2 Q1 (hiz), 3 D1 (in), 4 D2 (in), 5 Q2 (hiz), 6 Q3 (hiz), 7 D3 (in), 8 D4 (in), 9 Q4 (hiz), 10 GND (power), 11 CLK (in), 12 Q5 (hiz), 13 D5 (in), 14 D6 (in), 15 Q6 (hiz), 16 Q7 (hiz), 17 D7 (in), 18 D8 (in), 19 Q8 (hiz), 20 VCC (power)

## M54HC377F1R
designator U?
Octal D-Type Flip-Flop; Published: 8-Jun-2000; LatestRevisionDate: 17-Jul-2002; LatestRevisionNote: Re-released for DXP Platform.; DatasheetDocument: Feb-1993; PackageDocument: Sep-1994; PackageReference: CDIP20; Publisher: Altium Limited
footprint CDIP20 (DIP; 20 Leads; Row Spacing 7.62 mm; Pitch 2.54 mm)
signal-integrity model M54HC377F1R
pins: 1 ~{CLKEN} (in), 2 Q1 (out), 3 D1 (in), 4 D2 (in), 5 Q2 (out), 6 Q3 (out), 7 D3 (in), 8 D4 (in), 9 Q4 (out), 10 GND (power), 11 CLK (in), 12 Q5 (out), 13 D5 (in), 14 D6 (in), 15 Q6 (out), 16 Q7 (out), 17 D7 (in), 18 D8 (in), 19 Q8 (out), 20 VCC (power)

## M54HC534F1R
designator U?
Octal D-Type Flip-Flop with 3-State Output Inverting; Published: 8-Jun-2000; LatestRevisionDate: 17-Jul-2002; LatestRevisionNote: Re-released for DXP Platform.; DatasheetDocument: Mar-1993; PackageDocument: Sep-1994; PackageReference: CDIP20; Publisher: Altium Limited
footprint CDIP20 (DIP; 20 Leads; Row Spacing 7.62 mm; Pitch 2.54 mm)
signal-integrity model M54HC534F1R
pins: 1 ~{OE} (in), 2 ~{Q}0 (hiz), 3 D0 (in), 4 D1 (in), 5 ~{Q}1 (hiz), 6 ~{Q}2 (hiz), 7 D2 (in), 8 D3 (in), 9 ~{Q}3 (hiz), 10 GND (power), 11 CLK (in), 12 ~{Q}4 (hiz), 13 D4 (in), 14 D5 (in), 15 ~{Q}5 (hiz), 16 ~{Q}6 (hiz), 17 D6 (in), 18 D7 (in), 19 ~{Q}7 (hiz), 20 VCC (power)

## M54HC564F1R
designator U?
Octal D-Type Flip-Flop with 3-State Output Inverting; Published: 8-Jun-2000; LatestRevisionDate: 17-Jul-2002; LatestRevisionNote: Re-released for DXP Platform.; DatasheetDocument: Mar-1993; PackageDocument: Sep-1994; PackageReference: CDIP20; Publisher: Altium Limited
footprint CDIP20 (DIP; 20 Leads; Row Spacing 7.62 mm; Pitch 2.54 mm)
signal-integrity model M54HC564F1R
pins: 1 ~{OE} (in), 2 D1 (in), 3 D2 (in), 4 D3 (in), 5 D4 (in), 6 D5 (in), 7 D6 (in), 8 D7 (in), 9 D8 (in), 10 GND (power), 11 CLK (in), 12 ~{Q}8 (hiz), 13 ~{Q}7 (hiz), 14 ~{Q}6 (hiz), 15 ~{Q}5 (hiz), 16 ~{Q}4 (hiz), 17 ~{Q}3 (hiz), 18 ~{Q}2 (hiz), 19 ~{Q}1 (hiz), 20 VCC (power)

## M54HC574F1R
designator U?
Octal D-Type Flip-Flop with 3-State Output Non-Inverting; Published: 8-Jun-2000; LatestRevisionDate: 17-Jul-2002; LatestRevisionNote: Re-released for DXP Platform.; DatasheetDocument: Mar-1993; PackageDocument: Sep-1994; PackageReference: CDIP20; Publisher: Altium Limited
footprint CDIP20 (DIP; 20 Leads; Row Spacing 7.62 mm; Pitch 2.54 mm)
signal-integrity model M54HC574F1R
pins: 1 ~{OE} (in), 2 D1 (in), 3 D2 (in), 4 D3 (in), 5 D4 (in), 6 D5 (in), 7 D6 (in), 8 D7 (in), 9 D8 (in), 10 GND (power), 11 CLK (in), 12 Q8 (hiz), 13 Q7 (hiz), 14 Q6 (hiz), 15 Q5 (hiz), 16 Q4 (hiz), 17 Q3 (hiz), 18 Q2 (hiz), 19 Q1 (hiz), 20 VCC (power)

## M54HCT74F1R
designator U?
Dual D-Type Flip-Flop with Preset and Clear; Published: 8-Jun-2000; LatestRevisionDate: 17-Jul-2002; LatestRevisionNote: Re-released for DXP Platform.; DatasheetDocument: Feb-1993; PackageReference: CDIP14; Publisher: Altium Limited
footprint CDIP14 (DIP; 14 Leads; Row Spacing 7.62 mm; Pitch 2.54 mm)
signal-integrity model M54HCT74F1R
pins on every part: 7 GND (power) hidden to GND, 14 VCC (power) hidden to VCC
part A pins: 1 CLR (in), 2 D (in), 3 CLK (in), 4 PR (in), 5 Q (out), 6 ~{Q} (out)
part B pins: 8 ~{Q} (out), 9 Q (out), 10 PR (in), 11 CLK (in), 12 D (in), 13 CLR (in)

## M54HCT174F1R
designator U?
Hex D-Type Flip-Flop with Clear; Published: 8-Jun-2000; LatestRevisionDate: 17-Jul-2002; LatestRevisionNote: Re-released for DXP Platform.; DatasheetDocument: Feb-1993; PackageDocument: Apr-1996; PackageReference: DIP16; Publisher: Altium Limited
footprint DIP16 (DIP; 16 Leads; Row Spacing 7.62 mm; Pitch 2.54 mm)
signal-integrity model M54HCT174F1R
pins: 1 ~{RST} (in), 2 Q0 (out), 3 D0 (in), 4 D1 (in), 5 Q1 (out), 6 D2 (in), 7 Q2 (out), 8 GND (power), 9 CLK (in), 10 Q3 (out), 11 D3 (in), 12 Q4 (out), 13 D4 (in), 14 D5 (in), 15 Q5 (out), 16 VCC (power)

## M54HCT273F1R
designator U?
Octal D-Type Flip-Flop with Clear; Published: 8-Jun-2000; LatestRevisionDate: 17-Jul-2002; LatestRevisionNote: Re-released for DXP Platform.; DatasheetDocument: Feb-1993; PackageDocument: Sep-1994; PackageReference: CDIP20; Publisher: Altium Limited
footprint CDIP20 (DIP; 20 Leads; Row Spacing 7.62 mm; Pitch 2.54 mm)
signal-integrity model M54HCT273F1R
pins: 1 ~{RST} (in), 2 Q0 (out), 3 D0 (in), 4 D1 (in), 5 Q1 (out), 6 Q2 (out), 7 D2 (in), 8 D3 (in), 9 Q3 (out), 10 GND (power), 11 CLK (in), 12 Q4 (out), 13 D4 (in), 14 D5 (in), 15 Q5 (out), 16 Q6 (out), 17 D6 (in), 18 D7 (in), 19 Q7 (out), 20 VCC (power)

## M54HCT374F1R
designator U?
Octal D-Type Flip-Flop with 3-State Output Non-Inverting; Published: 8-Jun-2000; LatestRevisionDate: 17-Jul-2002; LatestRevisionNote: Re-released for DXP Platform.; DatasheetDocument: Apr-1993; PackageDocument: Sep-1994; PackageReference: CDIP20; Publisher: Altium Limited
footprint CDIP20 (DIP; 20 Leads; Row Spacing 7.62 mm; Pitch 2.54 mm)
signal-integrity model M54HCT374F1R
pins: 1 ~{OE} (in), 2 Q1 (hiz), 3 D1 (in), 4 D2 (in), 5 Q2 (hiz), 6 Q3 (hiz), 7 D3 (in), 8 D4 (in), 9 Q4 (hiz), 10 GND (power), 11 CLK (in), 12 Q5 (hiz), 13 D5 (in), 14 D6 (in), 15 Q6 (hiz), 16 Q7 (hiz), 17 D7 (in), 18 D8 (in), 19 Q8 (hiz), 20 VCC (power)

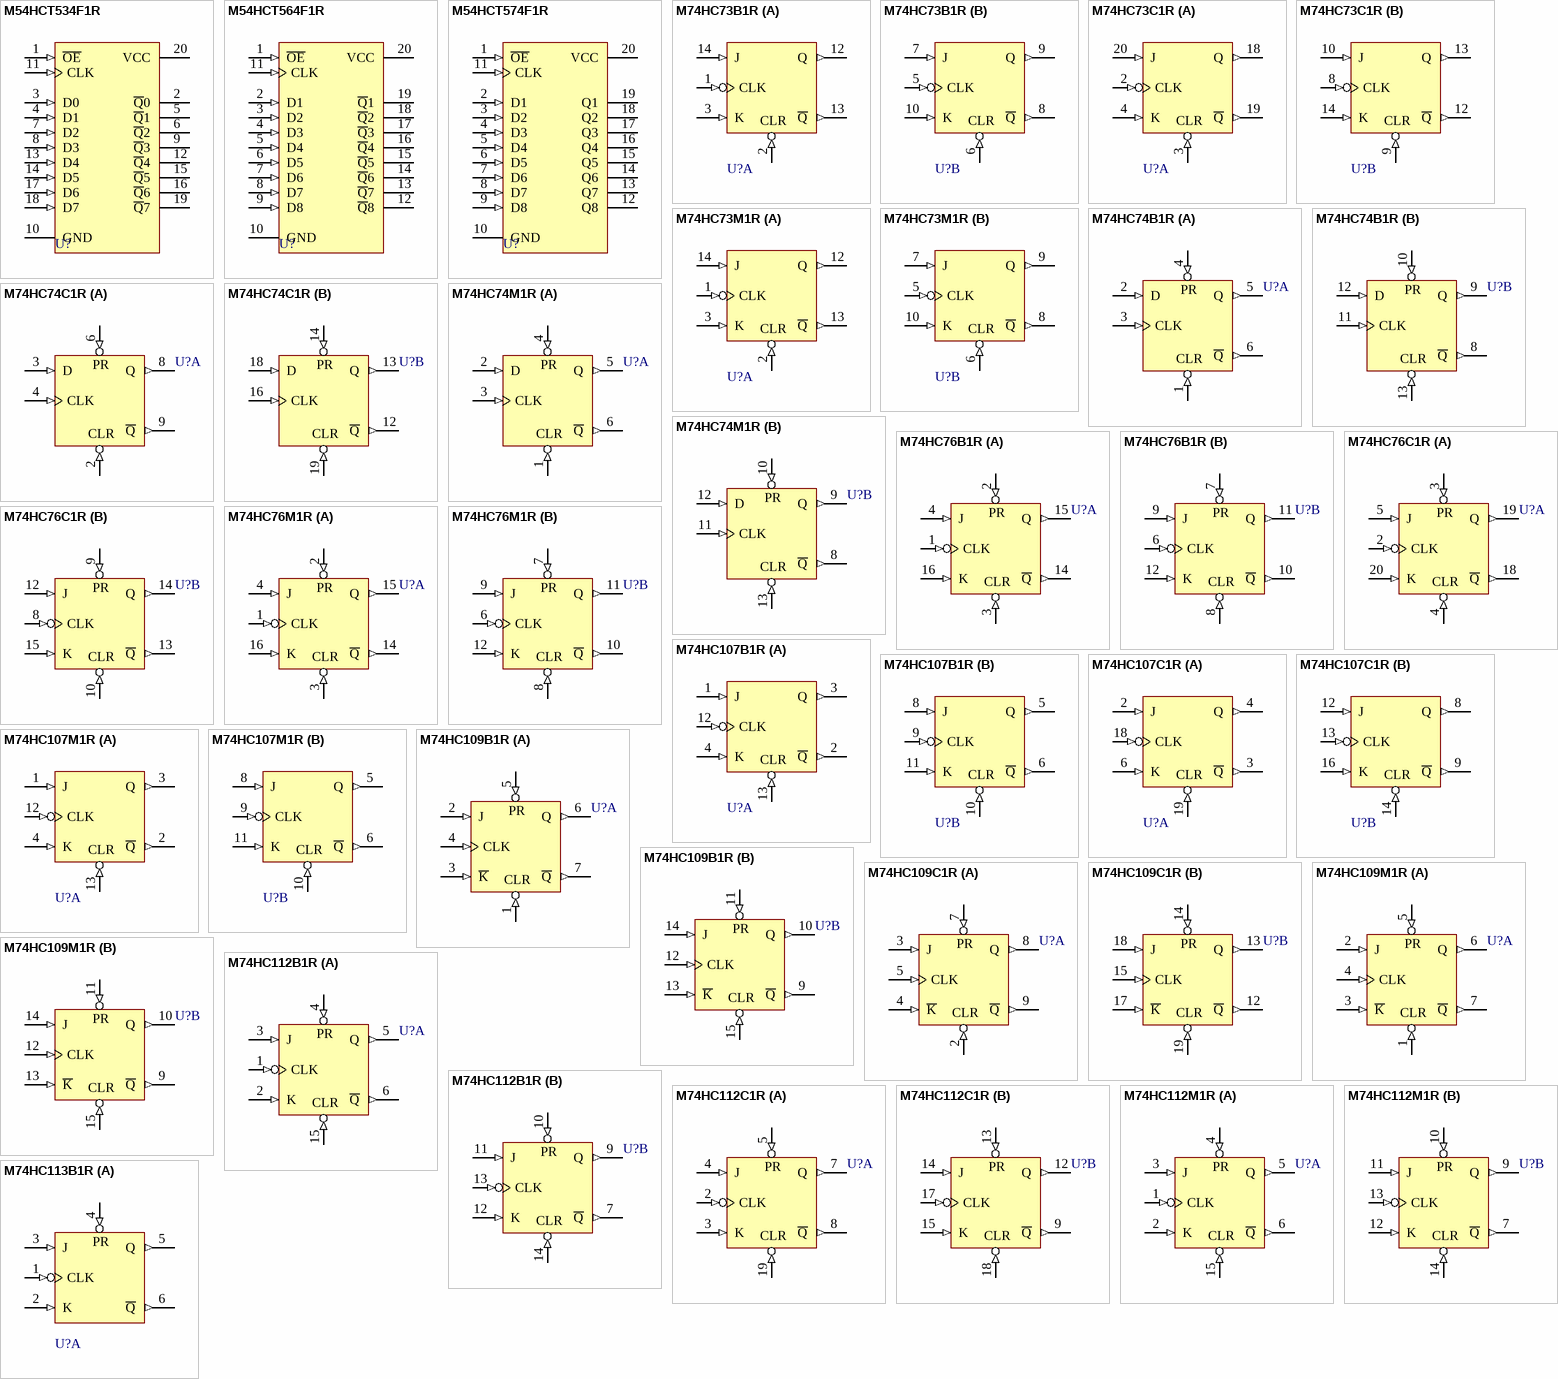
[diagram p2: symbols M54HCT534F1R to M74HC113B1R]

## M54HCT534F1R
designator U?
Octal D-Type Flip-Flop with 3-State Output Inverting; Published: 8-Jun-2000; LatestRevisionDate: 17-Jul-2002; LatestRevisionNote: Re-released for DXP Platform.; DatasheetDocument: Apr-1993; PackageDocument: Sep-1994; PackageReference: CDIP20; Publisher: Altium Limited
footprint CDIP20 (DIP; 20 Leads; Row Spacing 7.62 mm; Pitch 2.54 mm)
signal-integrity model M54HCT534F1R
pins: 1 ~{OE} (in), 2 ~{Q}0 (hiz), 3 D0 (in), 4 D1 (in), 5 ~{Q}1 (hiz), 6 ~{Q}2 (hiz), 7 D2 (in), 8 D3 (in), 9 ~{Q}3 (hiz), 10 GND (power), 11 CLK (in), 12 ~{Q}4 (hiz), 13 D4 (in), 14 D5 (in), 15 ~{Q}5 (hiz), 16 ~{Q}6 (hiz), 17 D6 (in), 18 D7 (in), 19 ~{Q}7 (hiz), 20 VCC (power)

## M54HCT564F1R
designator U?
Octal D-Type Flip-Flop with 3-State Output Inverting; Published: 8-Jun-2000; LatestRevisionDate: 17-Jul-2002; LatestRevisionNote: Re-released for DXP Platform.; DatasheetDocument: Sep-1993; PackageDocument: Sep-1994; PackageReference: CDIP20; Publisher: Altium Limited
footprint CDIP20 (DIP; 20 Leads; Row Spacing 7.62 mm; Pitch 2.54 mm)
signal-integrity model M54HCT564F1R
pins: 1 ~{OE} (in), 2 D1 (in), 3 D2 (in), 4 D3 (in), 5 D4 (in), 6 D5 (in), 7 D6 (in), 8 D7 (in), 9 D8 (in), 10 GND (power), 11 CLK (in), 12 ~{Q}8 (hiz), 13 ~{Q}7 (hiz), 14 ~{Q}6 (hiz), 15 ~{Q}5 (hiz), 16 ~{Q}4 (hiz), 17 ~{Q}3 (hiz), 18 ~{Q}2 (hiz), 19 ~{Q}1 (hiz), 20 VCC (power)

## M54HCT574F1R
designator U?
Octal D-Type Flip-Flop with 3-State Output Non-Inverting; Published: 8-Jun-2000; LatestRevisionDate: 17-Jul-2002; LatestRevisionNote: Re-released for DXP Platform.; DatasheetDocument: Sep-1993; PackageDocument: Sep-1994; PackageReference: CDIP20; Publisher: Altium Limited
footprint CDIP20 (DIP; 20 Leads; Row Spacing 7.62 mm; Pitch 2.54 mm)
signal-integrity model M54HCT574F1R
pins: 1 ~{OE} (in), 2 D1 (in), 3 D2 (in), 4 D3 (in), 5 D4 (in), 6 D5 (in), 7 D6 (in), 8 D7 (in), 9 D8 (in), 10 GND (power), 11 CLK (in), 12 Q8 (hiz), 13 Q7 (hiz), 14 Q6 (hiz), 15 Q5 (hiz), 16 Q4 (hiz), 17 Q3 (hiz), 18 Q2 (hiz), 19 Q1 (hiz), 20 VCC (power)

## M74HC73B1R
designator U?
Dual J-K Flip-Flop with Preset and Clear; Published: 8-Jun-2000; LatestRevisionDate: 17-Jul-2002; LatestRevisionNote: Re-released for DXP Platform.; DatasheetDocument: Oct-1992; PackageDocument: Jan-1997; PackageReference: DIP14; Publisher: Altium Limited
footprint DIP14 (DIP; 14 Leads; Row Spacing 7.62 mm; Pitch 2.54 mm)
signal-integrity model M74HC73B1R
pins on every part: 4 VCC (power) hidden to VCC, 11 GND (power) hidden to GND
part A pins: 1 CLK (in), 2 CLR (in), 3 K (in), 12 Q (out), 13 ~{Q} (out), 14 J (in)
part B pins: 5 CLK (in), 6 CLR (in), 7 J (in), 8 ~{Q} (out), 9 Q (out), 10 K (in)

## M74HC73C1R
designator U?
Dual J-K Flip-Flop with Preset and Clear; Note: Pins 1, 5, 7, 11, 15 and 17 are not connected and not drawn.; Published: 8-Jun-2000; LatestRevisionDate: 17-Jul-2002; LatestRevisionNote: Re-released for DXP Platform.; DatasheetDocument: Oct-1992; PackageDocument: Mar-1992; PackageReference: PLCC20; Publisher: Altium Limited
footprint PLCC20 (Leaded Chip Carrier; 20 Leads; Body 9 x 9 mm)
signal-integrity model M74HC73C1R
pins on every part: 6 VCC (power) hidden to VCC, 16 GND (power) hidden to GND
part A pins: 2 CLK (in), 3 CLR (in), 4 K (in), 18 Q (out), 19 ~{Q} (out), 20 J (in)
part B pins: 8 CLK (in), 9 CLR (in), 10 J (in), 12 ~{Q} (out), 13 Q (out), 14 K (in)

## M74HC73M1R
designator U?
Dual J-K Flip-Flop with Preset and Clear; Published: 8-Jun-2000; LatestRevisionDate: 17-Jul-2002; LatestRevisionNote: Re-released for DXP Platform.; DatasheetDocument: Oct-1992; PackageDocument: Sep-1998; PackageReference: SO14; Publisher: Altium Limited
footprint SO14 (Small Outline; 14 Leads; Body Width 3.9 mm; Pitch 1.27 mm)
signal-integrity model M74HC73M1R
pins on every part: 4 VCC (power) hidden to VCC, 11 GND (power) hidden to GND
part A pins: 1 CLK (in), 2 CLR (in), 3 K (in), 12 Q (out), 13 ~{Q} (out), 14 J (in)
part B pins: 5 CLK (in), 6 CLR (in), 7 J (in), 8 ~{Q} (out), 9 Q (out), 10 K (in)

## M74HC74B1R
designator U?
Dual D-Type Flip-Flop with Preset and Clear; Published: 8-Jun-2000; LatestRevisionDate: 17-Jul-2002; LatestRevisionNote: Re-released for DXP Platform.; DatasheetDocument: Oct-1992; PackageDocument: Jan-1997; PackageReference: DIP14; Publisher: Altium Limited
footprint DIP14 (DIP; 14 Leads; Row Spacing 7.62 mm; Pitch 2.54 mm)
signal-integrity model M74HC74B1R
pins on every part: 7 GND (power) hidden to GND, 14 VCC (power) hidden to VCC
part A pins: 1 CLR (in), 2 D (in), 3 CLK (in), 4 PR (in), 5 Q (out), 6 ~{Q} (out)
part B pins: 8 ~{Q} (out), 9 Q (out), 10 PR (in), 11 CLK (in), 12 D (in), 13 CLR (in)

## M74HC74C1R
designator U?
Dual D-Type Flip-Flop with Preset and Clear; Note: Pins 1, 5, 7, 11, 15 and 17 are not connected and not drawn.; Published: 8-Jun-2000; LatestRevisionDate: 17-Jul-2002; LatestRevisionNote: Re-released for DXP Platform.; DatasheetDocument: Oct-1992; PackageDocument: Mar-1992; PackageReference: PLCC20; Publisher: Altium Limited
footprint PLCC20 (Leaded Chip Carrier; 20 Leads; Body 9 x 9 mm)
signal-integrity model M74HC74C1R
pins on every part: 10 GND (power) hidden to GND, 20 VCC (power) hidden to VCC
part A pins: 2 CLR (in), 3 D (in), 4 CLK (in), 6 PR (in), 8 Q (out), 9 ~{Q} (out)
part B pins: 12 ~{Q} (out), 13 Q (out), 14 P~{R} (in), 16 CLK (in), 18 D (in), 19 CLR (in)

## M74HC74M1R
designator U?
Dual D-Type Flip-Flop with Preset and Clear; Published: 8-Jun-2000; LatestRevisionDate: 17-Jul-2002; LatestRevisionNote: Re-released for DXP Platform.; DatasheetDocument: Oct-1992; PackageDocument: Sep-1998; PackageReference: SO14; Publisher: Altium Limited
footprint SO14 (Small Outline; 14 Leads; Body Width 3.9 mm; Pitch 1.27 mm)
signal-integrity model M74HC74M1R
pins on every part: 7 GND (power) hidden to GND, 14 VCC (power) hidden to VCC
part A pins: 1 CLR (in), 2 D (in), 3 CLK (in), 4 PR (in), 5 Q (out), 6 ~{Q} (out)
part B pins: 8 ~{Q} (out), 9 Q (out), 10 PR (in), 11 CLK (in), 12 D (in), 13 CLR (in)

## M74HC76B1R
designator U?
Dual J-K Flip-Flop with Preset and Clear; Published: 8-Jun-2000; LatestRevisionDate: 17-Jul-2002; LatestRevisionNote: Re-released for DXP Platform.; DatasheetDocument: Oct-1992; PackageDocument: Apr-1996; PackageReference: DIP16; Publisher: Altium Limited
footprint DIP16 (DIP; 16 Leads; Row Spacing 7.62 mm; Pitch 2.54 mm)
signal-integrity model M74HC76B1R
pins on every part: 5 VCC (power) hidden to VCC, 13 GND (power) hidden to GND
part A pins: 1 CLK (in), 2 PR (in), 3 CLR (in), 4 J (in), 14 ~{Q} (out), 15 Q (out), 16 K (in)
part B pins: 6 CLK (in), 7 PR (in), 8 CLR (in), 9 J (in), 10 ~{Q} (out), 11 Q (out), 12 K (in)

## M74HC76C1R
designator U?
Dual J-K Flip-Flop with Preset and Clear; Note: Pins 1, 6, 11 and 16 are not connected and not drawn.; Published: 8-Jun-2000; LatestRevisionDate: 17-Jul-2002; LatestRevisionNote: Re-released for DXP Platform.; DatasheetDocument: Oct-1992; PackageDocument: Mar-1992; PackageReference: PLCC20; Publisher: Altium Limited
footprint PLCC20 (Leaded Chip Carrier; 20 Leads; Body 9 x 9 mm)
signal-integrity model M74HC76C1R
pins on every part: 7 VCC (power) hidden to VCC, 17 GND (power) hidden to GND
part A pins: 2 CLK (in), 3 PR (in), 4 CLR (in), 5 J (in), 18 ~{Q} (out), 19 Q (out), 20 K (in)
part B pins: 8 CLK (in), 9 PR (in), 10 CLR (in), 12 J (in), 13 ~{Q} (out), 14 Q (out), 15 K (in)

## M74HC76M1R
designator U?
Dual J-K Flip-Flop with Preset and Clear; Published: 8-Jun-2000; LatestRevisionDate: 17-Jul-2002; LatestRevisionNote: Re-released for DXP Platform.; DatasheetDocument: Oct-1992; PackageDocument: May-1998; PackageReference: SO16; Publisher: Altium Limited
footprint SO16 (Small Outline; 16 Leads; Body Width 3.9 mm; Pitch 1.27 mm)
signal-integrity model M74HC76M1R
pins on every part: 5 VCC (power) hidden to VCC, 13 GND (power) hidden to GND
part A pins: 1 CLK (in), 2 PR (in), 3 CLR (in), 4 J (in), 14 ~{Q} (out), 15 Q (out), 16 K (in)
part B pins: 6 CLK (in), 7 PR (in), 8 CLR (in), 9 J (in), 10 ~{Q} (out), 11 Q (out), 12 K (in)

## M74HC107B1R
designator U?
Dual J-K Flip-Flop with Clear; Published: 8-Jun-2000; LatestRevisionDate: 17-Jul-2002; LatestRevisionNote: Re-released for DXP Platform.; DatasheetDocument: Oct-1992; PackageDocument: Jan-1997; PackageReference: DIP14; Publisher: Altium Limited
footprint DIP14 (DIP; 14 Leads; Row Spacing 7.62 mm; Pitch 2.54 mm)
signal-integrity model M74HC107B1R
pins on every part: 7 GND (power) hidden to GND, 14 VCC (power) hidden to VCC
part A pins: 1 J (in), 2 ~{Q} (out), 3 Q (out), 4 K (in), 12 CLK (in), 13 CLR (in)
part B pins: 5 Q (out), 6 ~{Q} (out), 8 J (in), 9 CLK (in), 10 CLR (in), 11 K (in)

## M74HC107C1R
designator U?
Dual J-K Flip-Flop with Clear; Note: Pins 1, 5, 7, 11, 15 and 17 are not connected and not drawn.; Published: 8-Jun-2000; LatestRevisionDate: 17-Jul-2002; LatestRevisionNote: Re-released for DXP Platform.; DatasheetDocument: Oct-1992; PackageDocument: Mar-1992; PackageReference: PLCC20; Publisher: Altium Limited
footprint PLCC20 (Leaded Chip Carrier; 20 Leads; Body 9 x 9 mm)
signal-integrity model M74HC107C1R
pins on every part: 10 GND (power) hidden to GND, 20 VCC (power) hidden to VCC
part A pins: 2 J (in), 3 ~{Q} (out), 4 Q (out), 6 K (in), 18 CLK (in), 19 CLR (in)
part B pins: 8 Q (out), 9 ~{Q} (out), 12 J (in), 13 CLK (in), 14 CLR (in), 16 K (in)

## M74HC107M1R
designator U?
Dual J-K Flip-Flop with Clear; Published: 8-Jun-2000; LatestRevisionDate: 17-Jul-2002; LatestRevisionNote: Re-released for DXP Platform.; DatasheetDocument: Oct-1992; PackageDocument: Sep-1998; PackageReference: SO14; Publisher: Altium Limited
footprint SO14 (Small Outline; 14 Leads; Body Width 3.9 mm; Pitch 1.27 mm)
signal-integrity model M74HC107M1R
pins on every part: 7 GND (power) hidden to GND, 14 VCC (power) hidden to VCC
part A pins: 1 J (in), 2 ~{Q} (out), 3 Q (out), 4 K (in), 12 CLK (in), 13 CLR (in)
part B pins: 5 Q (out), 6 ~{Q} (out), 8 J (in), 9 CLK (in), 10 CLR (in), 11 K (in)

## M74HC109B1R
designator U?
Dual J-K Flip-Flop with Preset and Clear; Published: 8-Jun-2000; LatestRevisionDate: 17-Jul-2002; LatestRevisionNote: Re-released for DXP Platform.; DatasheetDocument: Dec-1992; PackageDocument: Apr-1996; PackageReference: DIP16; Publisher: Altium Limited
footprint DIP16 (DIP; 16 Leads; Row Spacing 7.62 mm; Pitch 2.54 mm)
signal-integrity model M74HC109B1R
pins on every part: 8 GND (power) hidden to GND, 16 VCC (power) hidden to VCC
part A pins: 1 CLR (in), 2 J (in), 3 ~{K} (in), 4 CLK (in), 5 PR (in), 6 Q (out), 7 ~{Q} (out)
part B pins: 9 ~{Q} (out), 10 Q (out), 11 PR (in), 12 CLK (in), 13 ~{K} (in), 14 J (in), 15 CLR (in)

## M74HC109C1R
designator U?
Dual J-K Flip-Flop with Preset and Clear; Note: Pins 1, 6, 11 and 16 are not connected and not drawn.; Published: 8-Jun-2000; LatestRevisionDate: 17-Jul-2002; LatestRevisionNote: Re-released for DXP Platform.; DatasheetDocument: Dec-1992; PackageDocument: Mar-1992; PackageReference: PLCC20; Publisher: Altium Limited
footprint PLCC20 (Leaded Chip Carrier; 20 Leads; Body 9 x 9 mm)
signal-integrity model M74HC109C1R
pins on every part: 10 GND (power) hidden to GND, 20 VCC (power) hidden to VCC
part A pins: 2 CLR (in), 3 J (in), 4 ~{K} (in), 5 CLK (in), 7 PR (in), 8 Q (out), 9 ~{Q} (out)
part B pins: 12 ~{Q} (out), 13 Q (out), 14 PR (in), 15 CLK (in), 17 ~{K} (in), 18 J (in), 19 CLR (in)

## M74HC109M1R
designator U?
Dual J-K Flip-Flop with Preset and Clear; Published: 8-Jun-2000; LatestRevisionDate: 17-Jul-2002; LatestRevisionNote: Re-released for DXP Platform.; DatasheetDocument: Dec-1992; PackageDocument: May-1998; PackageReference: SO16; Publisher: Altium Limited
footprint SO16 (Small Outline; 16 Leads; Body Width 3.9 mm; Pitch 1.27 mm)
signal-integrity model M74HC109M1R
pins on every part: 8 GND (power) hidden to GND, 16 VCC (power) hidden to VCC
part A pins: 1 CLR (in), 2 J (in), 3 ~{K} (in), 4 CLK (in), 5 PR (in), 6 Q (out), 7 ~{Q} (out)
part B pins: 9 ~{Q} (out), 10 Q (out), 11 PR (in), 12 CLK (in), 13 ~{K} (in), 14 J (in), 15 CLR (in)

## M74HC112B1R
designator U?
Dual J-K Flip-Flop with Preset and Clear; Published: 8-Jun-2000; LatestRevisionDate: 17-Jul-2002; LatestRevisionNote: Re-released for DXP Platform.; DatasheetDocument: Oct-1992; PackageDocument: Apr-1996; PackageReference: DIP16; Publisher: Altium Limited
footprint DIP16 (DIP; 16 Leads; Row Spacing 7.62 mm; Pitch 2.54 mm)
signal-integrity model M74HC112B1R
pins on every part: 8 GND (power) hidden to GND, 16 VCC (power) hidden to VCC
part A pins: 1 CLK (in), 2 K (in), 3 J (in), 4 PR (in), 5 Q (out), 6 ~{Q} (out), 15 CLR (in)
part B pins: 7 ~{Q} (out), 9 Q (out), 10 PR (in), 11 J (in), 12 K (in), 13 CLK (in), 14 CLR (in)

## M74HC112C1R
designator U?
Dual J-K Flip-Flop with Preset and Clear; Note: Pins 1, 6, 11 and 16 are not connected and not drawn.; Published: 8-Jun-2000; LatestRevisionDate: 17-Jul-2002; LatestRevisionNote: Re-released for DXP Platform.; DatasheetDocument: Oct-1992; PackageDocument: Mar-1992; PackageReference: PLCC20; Publisher: Altium Limited
footprint PLCC20 (Leaded Chip Carrier; 20 Leads; Body 9 x 9 mm)
signal-integrity model M74HC112C1R
pins on every part: 10 GND (power) hidden to GND, 20 VCC (power) hidden to VCC
part A pins: 2 CLK (in), 3 K (in), 4 J (in), 5 PR (in), 7 Q (out), 8 ~{Q} (out), 19 CLR (in)
part B pins: 9 ~{Q} (out), 12 Q (out), 13 PR (in), 14 J (in), 15 K (in), 17 CLK (in), 18 CLR (in)